# Altium footprint library PcbLib1.PcbLib: 25 footprints (part 1 of 2)
Each footprint in its own frame and in the unit in brackets; x right, y up, seen from the top. Pads: shape width x height; smd on the part's side, far side on the other; paste and mask are expansions set on the pad; w line width, h text height; cw(c..) or ccw(c..) is an arc to the next point about the centre after c.
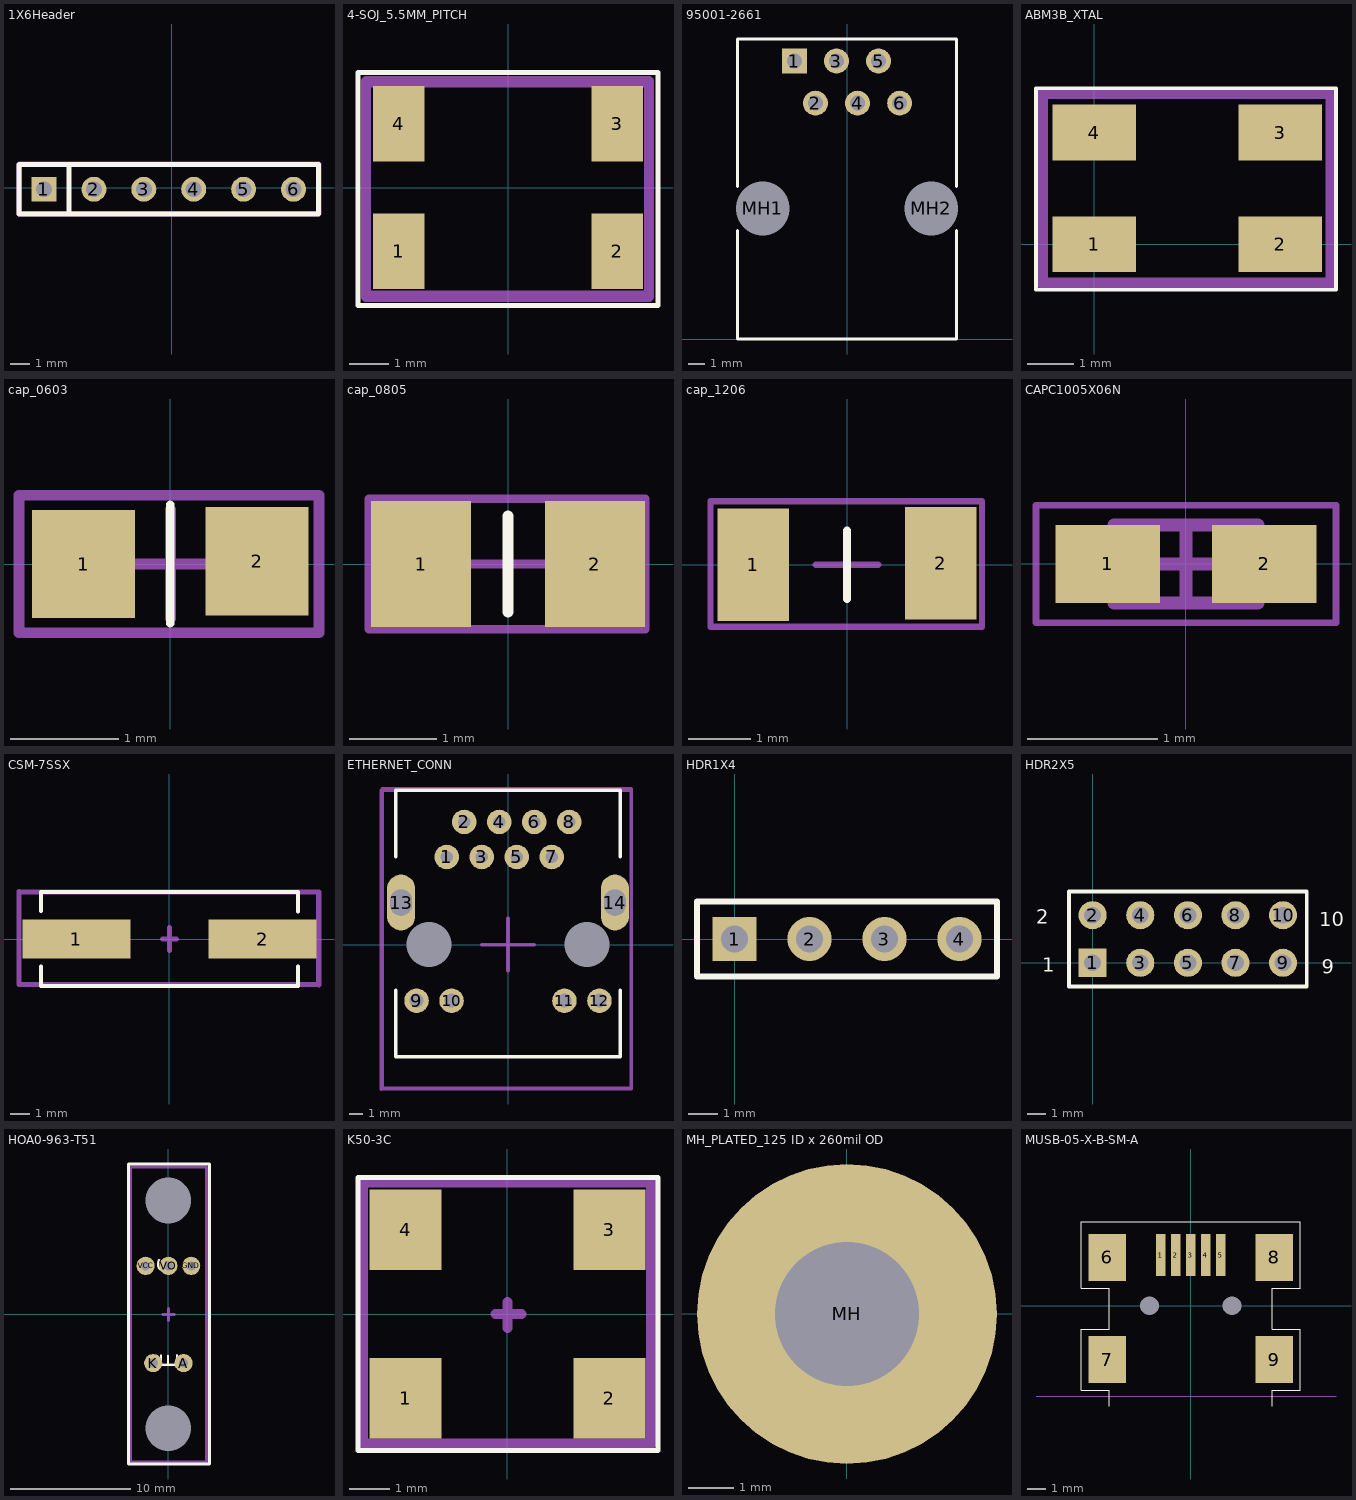
[diagram p0: the footprints below, top view; thin cyan lines are the x and y axes]

## 1X6Header [mil]
pads (6):
  rect 50x50 hole 32: 1(-256.14,-2.64)
  round 50 hole 32: 2(-156.14,-2.64) 3(-56.14,-2.64) 4(43.86,-2.64) 5(143.86,-2.64) 6(243.86,-2.64)
Top Overlay:
  lines w10: -206.14,-52.64 -206.14,47.36 ; -306.14,-52.64 -306.14,47.36 293.86,47.36 293.86,-52.64 -306.14,-52.64
Mechanical 11:
  lines w10: -305.16,-51.65 -305.16,48.35 294.84,48.35 294.84,-51.65 -305.16,-51.65
  text ".comment" at -276.57,-131.89 h60
  text ".designator" at -277.56,-28.54 h60
Mechanical 15:
  lines w10: -306.14,-52.64 293.86,-52.64 293.86,47.36 -306.14,47.36 -306.14,-52.64
3D body: height 397.64, standoff -59.06, extent -306.14,-52.63 293.86,47.37

## 4-SOJ_5.5MM_PITCH [mm]
height 2.4
pads (4):
  rect 1.3x1.9 smd: 1(-2.75,-1.6) 2(2.75,-1.6) 3(2.75,1.6) 4(-2.75,1.6)
Top Overlay:
  lines w0.127: -3.775,-2.975 -3.775,2.9 3.775,2.9 3.775,-2.975 -3.775,-2.975
  text "." at -4.15,-3.725 h1.52
Mechanical 11:
  lines w0.254: -3.575,-2.725 3.55,-2.725 3.55,2.675 -3.575,2.675 -3.575,-2.725
  text ".comment" at -2.95,-1.775 h1.52
  text ".designator" at -2.875,0.675 h1.52
Mechanical 15:
  lines w0.254: 3.55,2.6 3.55,-2.75 -3.575,-2.75 -3.575,2.65 3.55,2.65
3D body: height 2.44, standoff -0.05, extent -3.975,-1.85 3.925,1.85

## 95001-2661 [mm] "Connector; PCB Jack, Thru-Hole; 1-Port, 6 Positions, 6 Loaded; Unshielded without Lightpipes; Right Angle"
height 11.65
pads (8):
  rect 1.5x1.5 hole 0.9: 1(-3.175,16.77)
  round 1.5 hole 0.9: 2(-1.905,14.23) 3(-0.635,16.77) 4(0.635,14.23) 5(1.905,16.77) 6(3.175,14.23)
  round 2.95 hole 3.25 unplated: MH1(-5.08,7.88) MH2(5.08,7.88)
Top Overlay:
  lines w0.2: -6.605,6.548 -6.605,0 6.605,0 6.605,6.548 ; -6.605,9.212 -6.605,18.1 6.605,18.1 6.605,9.212
3D body: height 12.57, standoff -3.81, extent -6.668,-0.051 6.668,18.11

## ABM3B_XTAL [mm]
height 1.1
pads (4):
  rect 1.8x1.2 smd: 1(0,0) 2(4,0) 3(4,2.4) 4(0,2.4)
Top Overlay:
  lines w0.076: -1.25,-0.975 5.2,-0.975 5.2,3.35 -1.25,3.35 -1.25,-0.975
Mechanical 15:
  lines w0.254: -1.118,-0.838 -1.118,3.251 5.105,3.251 5.105,-0.838 -1.118,-0.838
3D body: height 1.11, standoff 0.02, extent -0.595,-0.381 4.405,2.819

## cap_0603 [mm]
pads (2):
  rect 0.95x1 smd: 1(-0.8,0) 2(0.8,0.025)
Top Overlay:
  lines w0.076: 0,-0.55 0,0.55
Mechanical 15:
  lines w0.1: -0.5,0 0.5,0 ; 0,-0.5 0,0.5 ; -1.397,-0.635 1.372,-0.635 1.372,0.635 -1.397,0.635 -1.397,-0.635
3D body: height 0.82, standoff 0.02, extent -0.8,-0.394 0.8,0.406

## cap_0805 [mm]
pads (2):
  rect 1.15x1.45 smd: 1(-1,0) 2(1,0)
Top Overlay:
  lines w0.127: 0,-0.55 0,0.55
Mechanical 15:
  lines w0.1: -0.5,0 0.5,0 ; 0,-0.5 0,0.5 ; -1.6,-0.75 1.575,-0.75 1.575,0.75 -1.6,0.75 -1.6,-0.75
3D body: height 0.62, standoff 0.02, extent -1,-0.615 1,0.635

## cap_1206 [mm]
pads (2):
  rect 1.15x1.8 smd: 1(-1.5,0) 2(1.5,0.025)
Top Overlay:
  lines w0.127: 0,-0.55 0,0.55
Mechanical 15:
  lines w0.1: -0.5,0 0.5,0 ; 0,-0.5 0,0.5 ; -2.184,-0.991 2.159,-0.991 2.159,1.016 -2.184,1.016 -2.184,-0.991
3D body: height 0.8, standoff 0.02, extent -1.6,-0.787 1.6,0.813

## CAPC1005X06N [mm] "Chip Capacitor, 2-Leads, Body 1.00x0.50mm, IPC Medium Density"
height 0.6
pads (2):
  rect 0.8x0.6 smd: 1(-0.6,0) 2(0.6,0)
Mechanical 13:
  lines w0.1: -0.55,-0.3 -0.55,0.3 0.55,0.3 0.55,-0.3 -0.55,-0.3
Mechanical 15:
  lines w0.05: -1.15,-0.45 -1.15,0.45 1.15,0.45 1.15,-0.45 -1.15,-0.45
  lines w0.1: -0.3,0 0.3,0 ; 0,-0.3 0,0.3
3D body: height 0.6, standoff 0, extent -0.35,-0.3 0.35,0.3
3D body: height 0.6, standoff 0, extent -0.55,-0.3 -0.35,0.3
3D body: height 0.6, standoff 0, extent 0.35,-0.3 0.55,0.3

## CSM-7SSX [mm]
height 2.6
pads (2):
  rect 5.5x2 smd: 1(-4.75,0) 2(4.75,0)
Top Overlay:
  lines w0.2: -6.555,-2.4 6.55,-2.4 ; -6.55,-2.387 -6.55,-1.412 ; -6.55,1.425 -6.55,2.4 6.55,2.4 ; 6.55,-2.387 6.55,-1.412 ; 6.55,1.412 6.55,2.387
Mechanical 11:
  lines w0.254: -7.675,2.425 -7.675,-2.325 7.6,-2.325 ; -7.65,2.4 7.625,2.4 7.625,-2.35
  text ".designator" at -5.45,0.475 h1.52
  text ".comment" at -5.375,-1.7 h1.52
Mechanical 15:
  lines w0.254: -0.35,0 0.35,0 ; 0,-0.575 0,0.575 ; -7.675,-2.325 -7.675,2.4 7.6,2.4 7.6,-2.325 -7.675,-2.325

## ETHERNET_CONN [mil]
pads (16):
  round 70 hole 35: 1(-175,250) 2(-125,350) 3(-75,250) 4(-25,350) 5(25,250) 6(75,350) 7(125,250) 8(175,350)
  round 70 hole 40: 9(-261,-160) 10(-161,-160) 11(161,-160) 12(261,-160)
  oval 80x160 hole 62 slot 75 at 90 deg: 13(-305,120) 14(305,120)
  round 0 hole 128 unplated: MH(-225,0) MH(225,0)
Top Overlay:
  lines w10: -320,-130 -320,-320 320,-320 320,-130 ; -320,250 -320,440 320,440 320,250
Mechanical 11:
  lines w10: -362,441 -362,-412 -361,-411 352,-411 352,444 -359,444
  text ".comment" at -203,-134 h60
  text ".designator" at -192,172 h60
Mechanical 15:
  lines w10: -75,0 75,0 ; 0,-75 0,75 ; -359,-410 -359,440 -319,440 321,440 351,440 351,-410 -359,-410

## HDR1X4 [mm] "Connector; Header; 4 Position"
pads (4):
  rect 1.5x1.5 hole 0.9: 1(0,0)
  round 1.5 hole 0.9: 2(2.54,0) 3(5.08,0) 4(7.62,0)
Top Overlay:
  lines w0.2: -1.27,-1.27 8.89,-1.27 8.89,1.27 -1.27,1.27 -1.27,-1.27
3D body: height 11.64, standoff -3.62, extent -1.27,-2.9 8.89,2.9

## HDR2X5 [mm] "Connector; Header; 5x2 Position"
pads (10):
  rect 1.5x1.5 hole 0.9: 1(0,0)
  round 1.5 hole 0.9: 2(0,2.54) 3(2.54,0) 4(2.54,2.54) 5(5.08,0) 6(5.08,2.54) 7(7.62,0) 8(7.62,2.54) 9(10.16,0) 10(10.16,2.54)
Top Overlay:
  lines w0.2: -1.27,-1.27 11.43,-1.27 11.43,3.81 -1.27,3.81 -1.27,-1.27
  text "10" at 12.1,1.95 h0.76
  text "9" at 12.225,-0.575 h0.76
  text "1" at -2.7,-0.475 h0.76
  text "2" at -3.025,2.075 h0.76
3D body: height 9.38, standoff -2.81, extent -5.08,-3.378 15.24,6.096

## HOA0-963-T51 [mil]
height 400
pads (7):
  round 60 hole 30: A(50,-160) GND(75,160) K(-50,-160) VCC(-75,160) VO(0,160)
  round 0 hole 150: MH1(0,-375) MH2(0,375)
Top Overlay:
  lines w10: -130.91,-492.13 -130.91,495.08 134.84,495.08 134.84,-492.13 -130.91,-492.13
  text "E" at 32.48,-179.13 h60
  text "S" at 23.62,137.8 h60
Bottom Overlay:
  lines w10: -128.94,-487.2 -128.94,489.17 -126.97,491.14 129.92,491.14 129.92,-489.17 -126.97,-489.17 -128.94,-487.2
  text "A" at 30.51,-114.17 h60
  text "K" at -66.93,-112.2 h60
Mechanical 15:
  lines w10: -19.68,0 19.68,0 ; 0,-19.68 0,19.68 ; -125,-485 125,-485 125,485 -125,485 -125,-485
3D body: height 425, standoff -59.06, extent -124.99,-484.62 125.01,485.38

## K50-3C [mm]
height 1.6
pads (4):
  rect 1.8x2 smd: 1(-2.54,-2.1) 2(2.54,-2.1) 3(2.54,2.1) 4(-2.54,2.1)
Top Overlay:
  lines w0.127: -3.725,-3.4 -3.725,3.4 3.75,3.4 3.75,-3.4 -3.725,-3.4
Mechanical 11:
  lines w0.254: -3.625,-3.175 -3.625,3.3 3.55,3.3 ; -3.6,-3.225 3.575,-3.225 3.575,3.25
  text ".comment" at -3.2,-1.1 h1.52
  text ".designator" at -3.175,1.4 h1.52
Mechanical 15:
  lines w0.254: -0.3,0 0.35,0 ; 0,-0.35 0,0.3 ; -3.6,-3.225 3.6,-3.225 3.6,3.275 -3.6,3.275 -3.6,-3.225
3D body: height 1.51, standoff -0.01, extent -3.5,-2.45 3.5,2.55

## MH_PLATED_125 ID x 260mil OD [mil]
pads (1):
  round 260 hole 125: MH(0,0)

## MUSB-05-X-B-SM-A [mm]
pads (11):
  rect 0.5x2.25 smd mask+0.05: 1(-1.6,2.708) 2(-0.8,2.708) 3(0,2.708) 4(0.8,2.708) 5(1.6,2.708)
  rect 2x2.5 smd mask+0.05: 6(-4.45,2.583) 7(-4.45,-2.867) 8(4.45,2.583) 9(4.45,-2.867)
  round 0 hole 1 unplated: 10(-2.2,0.008) 11(2.2,0.008)
Top Overlay:
  lines w0.051: -4.35,-5.342 -4.35,-4.502 -5.83,-4.502 -5.83,-1.242 -4.35,-1.242 -4.35,0.948 -5.83,0.948 -5.83,4.475 5.83,4.475 5.83,0.948 4.35,0.948 4.35,-1.242 5.83,-1.242 5.83,-4.502 4.35,-4.502 4.35,-5.342
Mechanical 21:
  lines w0.01: -8.254,-4.826 7.746,-4.826
3D body: height 4.03, standoff -0.97, extent -4.95,-5.842 4.95,3.658